# EAGLE library part 692122030100 (library Input-Output_Connectors_rev15d)
WR-COM USB 3.0 HORIZONTAL SMT TYPE A=>Code : Con-I-O_COM_USB-3.0_A_692122030100 <http://katalog.we-online.de/media/images/eican/Con-I-O_COM_USB-3.0_A_692122030100_pf2.jpg> Details see: http://katalog.we-online.de/en/em/692_122_030_100 Created 2014-07-09, Karrer Zheng 2014 (C) Würth Elektronik
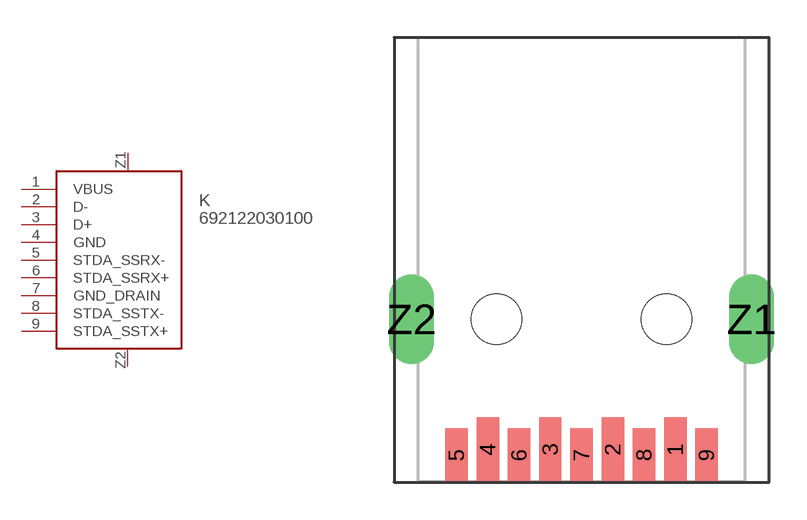
[diagram p85: symbol with the pads of 692122030100; footprint 692122030100]

Designator prefix K

## 692122030100  [692122030100]
1  VBUS
2  D-
3  D+
4  GND
5  STDA_SSRX-
6  STDA_SSRX+
7  GND_DRAIN
8  STDA_SSTX-
9  STDA_SSTX+
Z1  Z1
Z2  Z2

## Footprint 692122030100 (pad centres in mm)
WR-COM USB 3.0 HORIZONTAL SMT TYPE A
smd 0.9 x 2.6: 1 3.75,0.225; 2 1.25,0.225; 3 -1.25,0.225; 4 -3.75,0.225
smd 0.9 x 2.15: 5 -5,0; 6 -2.5,0; 7 0,0; 8 2.5,0; 9 5,0
drill 1.2 long: Z1 6.8,5.445; Z2 -6.8,5.445
hole 2 at 3.4,5.445
hole 2 at -3.4,5.445